# Altium footprint library PCB - ANTENNA - Fractus Antennas FR01-S4-224 .PCBLIB: 1 footprints
Each footprint in its own frame and in the unit in brackets; x right, y up, seen from the top. Pads: shape width x height; smd on the part's side, far side on the other; paste and mask are expansions set on the pad; w line width, h text height; cw(c..) or ccw(c..) is an arc to the next point about the centre after c.
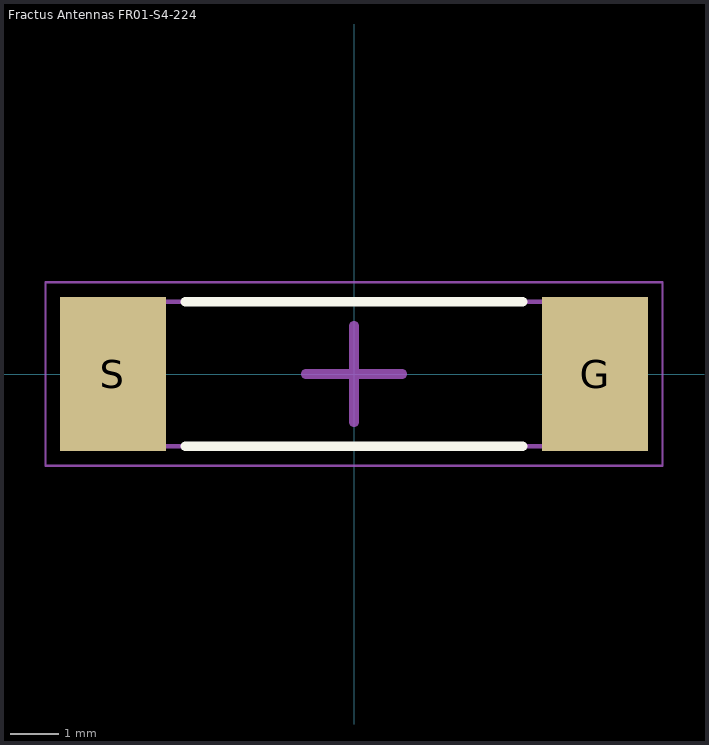
[diagram p0: the footprint, top view; thin cyan lines are the x and y axes]

## Fractus Antennas FR01-S4-224 [mm]
height 2.6
pads (2):
  rect 2.2x3.2 smd: G(5,0) S(-5,0)
Top Overlay:
  lines w0.2: -3.5,-1.5 3.5,-1.5 ; -3.5,1.5 3.5,1.5
Mechanical 13:
  lines w0.1: -6,-1.5 -6,1.5 6,1.5 6,-1.5 -6,-1.5
Mechanical 15:
  lines w0.05: -6.4,-1.9 -6.4,1.9 6.4,1.9 6.4,-1.9 -6.4,-1.9
  lines w0.2: -1,0 1,0 ; 0,-1 0,1
3D body "Fractus FR01-S4-224.step": height 2.38, standoff -0.02, extent -6,-1.5 6,1.5